# Altium integrated library DPC-16-260.IntLib: 1 symbol
Pins are listed as number, name and electrical type; pins without a type are passive.

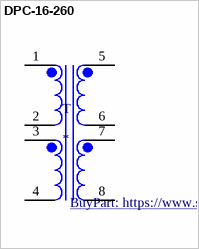
[diagram p0: symbol DPC-16-260]

## DPC-16-260
designator T
Low Power Miniature Transformer | 4.4VA Power | 115V/230V Input | 16VCT Output Series; MP: DPC-16-260; MF: Signal Transformer; SnapEDA_Link: https://www.snapeda.com/parts/DPC-16-260/Signal%20Transformer/view-part/4623700/?ref=snap; Price: None; Mouser-Purchase-URL: https://snapeda.com/shop?store=Mouser&id=4623700; Availability: Bad; Package: Non-Standard Signal Transformer; Value: *; BuyPart: https://www.snapeda.com/parts/DPC-16-260/Signal%20Transformer/view-part/4623700/?ref=eda
footprint XFMR_DPC-16-260
pins: 1, 2, 3, 4, 5, 6, 7, 8